# EAGLE library part MOLEX-43045-24?* (library con-Molex-43045)
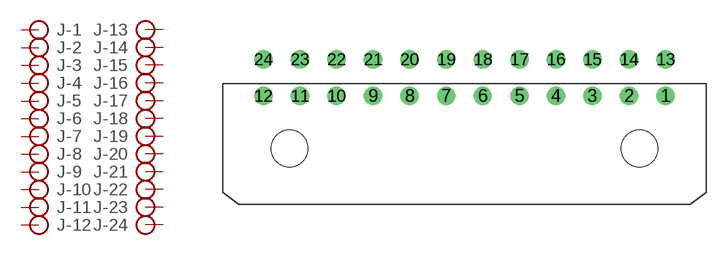
[diagram p1: symbol with the pads of MOLEX-43045-24_TH; footprint MOLEX-43045-24_TH]

Designator prefix J; gates -1=PIN -2=PIN -3=PIN -4=PIN -5=PIN -6=PIN -7=PIN -8=PIN -9=PIN -10=PIN -11=PIN -12=PIN -13=PIN_R -14=PIN_R -15=PIN_R -16=PIN_R -17=PIN_R -18=PIN_R -19=PIN_R -20=PIN_R -21=PIN_R -22=PIN_R -23=PIN_R -24=PIN_R

## MOLEX-43045-2400 (MF: MOLEX; MPN: 430452400), MOLEX-43045-2401 (MF: MOLEX; MPN: 430452401), MOLEX-43045-2402 (MF: MOLEX; MPN: 430452402)  [MOLEX-43045-24_TH]
1  -1:P  pas
2  -2:P  pas
3  -3:P  pas
4  -4:P  pas
5  -5:P  pas
6  -6:P  pas
7  -7:P  pas
8  -8:P  pas
9  -9:P  pas
10  -10:P  pas
11  -11:P  pas
12  -12:P  pas
13  -13:P  pas
14  -14:P  pas
15  -15:P  pas
16  -16:P  pas
17  -17:P  pas
18  -18:P  pas
19  -19:P  pas
20  -20:P  pas
21  -21:P  pas
22  -22:P  pas
23  -23:P  pas
24  -24:P  pas

## Footprint MOLEX-43045-24_TH (pad centres in mm)
drill 1: 1 16.5,4.32; 2 13.5,4.32; 3 10.5,4.32; 4 7.5,4.32; 5 4.5,4.32; 6 1.5,4.32; 7 -1.5,4.32; 8 -4.5,4.32; 9 -7.5,4.32; 10 -10.5,4.32; 11 -13.5,4.32; 12 -16.5,4.32; 13 16.5,7.32; 14 13.5,7.32; 15 10.5,7.32; 16 7.5,7.32; 17 4.5,7.32; 18 1.5,7.32; 19 -1.5,7.32; 20 -4.5,7.32; 21 -7.5,7.32; 22 -10.5,7.32; 23 -13.5,7.32; 24 -16.5,7.32
hole 3 at 14.35,0
hole 3 at -14.35,0